# Altium schematic symbol library ADP7118ARDZ-5.0-R7.SchLib: 1 symbol
Pins are listed as number, name and electrical type; pins without a type are passive.

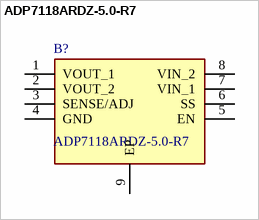
[diagram p0: symbol ADP7118ARDZ-5.0-R7]

## ADP7118ARDZ-5.0-R7
designator B?
ANALOG DEVICES - ADP7118ARDZ-5.0-R7 - LDO Voltage Regulator, Fixed, 2.7 V to 20 V in, 200 mV drop, 5 V/200 mA out, NSOIC-8; Geometry.Height: 1.75mm; Mouser Part Number: 584-ADP7118ARDZ5.0R7; Mouser Price/Stock: https://www.mouser.co.uk/ProductDetail/Analog-Devices/ADP7118ARDZ-5.0-R7?qs=hpwIUhX6lWxkjIxJkz884Q%3D%3D; Manufacturer_Name: Analog Devices; Manufacturer_Part_Number: ADP7118ARDZ-5.0-R7; Datasheet Link: https://www.analog.com/media/en/technical-documentation/data-sheets/adp7118.pdf
footprint SOIC127P600X175-9N
pins: 1 VOUT_1, 2 VOUT_2, 3 SENSE/ADJ, 4 GND, 5 EN, 6 SS, 7 VIN_1, 8 VIN_2, 9 EP